# EAGLE library part U106BS-DIL16 (library U106BS)
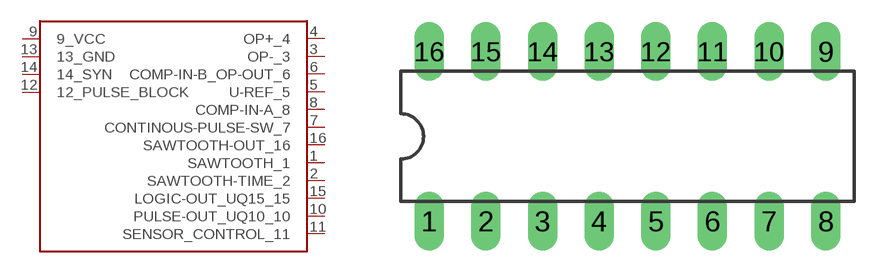
[diagram p1: symbol with the pads of DIL16; footprint DIL16]

Designator prefix -

## U106BS-DIL16  [DIL16]
1  SAWTOOTH_1  in
2  SAWTOOTH-TIME_2  in
3  OP-_3  in
4  OP+_4  in
5  U-REF_5  out
6  COMP-IN-B_OP-OUT_6  out
7  CONTINOUS-PULSE-SW_7  in
8  COMP-IN-A_8  in
9  9_VCC  pwr
10  PULSE-OUT_UQ10_10  out
11  SENSOR_CONTROL_11  in
12  12_PULSE_BLOCK  in
13  13_GND  pwr
14  14_SYN  in
15  LOGIC-OUT_UQ15_15  out
16  SAWTOOTH-OUT_16  out

## Footprint DIL16 (pad centres in mm)
Dual In Line Package
drill 0.813 long: 1 -8.89,-3.81; 2 -6.35,-3.81; 3 -3.81,-3.81; 4 -1.27,-3.81; 5 1.27,-3.81; 6 3.81,-3.81; 7 6.35,-3.81; 8 8.89,-3.81; 9 8.89,3.81; 10 6.35,3.81; 11 3.81,3.81; 12 1.27,3.81; 13 -1.27,3.81; 14 -3.81,3.81; 15 -6.35,3.81; 16 -8.89,3.81